# Altium schematic symbol library Schlib1.SchLib: 19 symbols
Pins are listed as number, name and electrical type; pins without a type are passive.

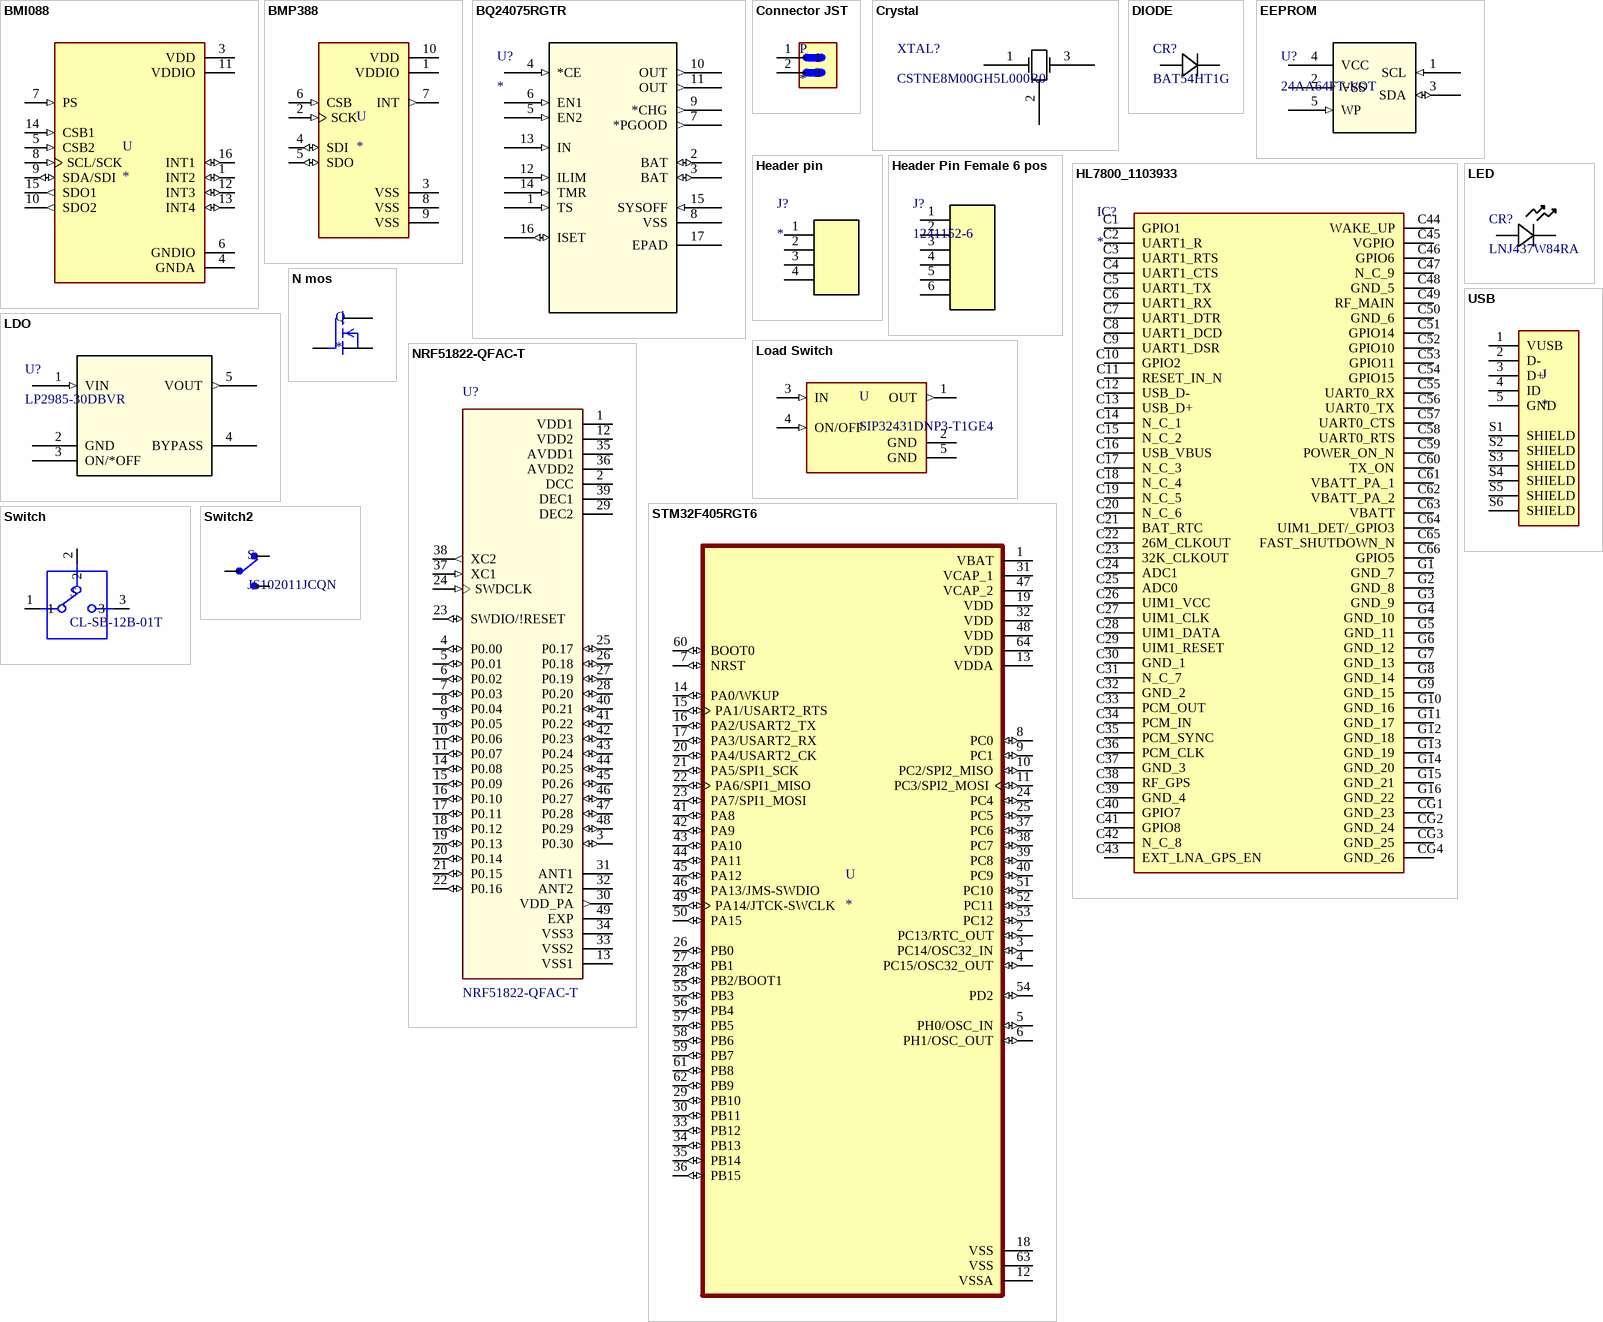
[diagram p0: symbols BMI088 to USB]

## BMI088
designator U
Accelerometer, Gyroscope, 6 Axis Sensor IÂ²C, SPI Output; MP: BMI088; MF: Bosch Sensortec; Availability: Unavailable; Price: None; Value: *; SnapEDA_Link: https://www.snapeda.com/parts/BMI088/Bosch%20Sensortec/view-part/2774026/?ref=snap; Package: VFLGA-16 Bosch Sensortec
footprint PQFN50P450X300X100-16N
footprint PQFN50P450X300X100-16N
pins: 1 INT2 (io), 3 VDD (power), 4 GNDA (power), 5 CSB2 (in), 6 GNDIO (power), 7 PS (in), 8 SCL/SCK (in), 9 SDA/SDI (io), 10 SDO2 (out), 11 VDDIO (power), 12 INT3 (io), 13 INT4 (io), 14 CSB1 (in), 15 SDO1 (out), 16 INT1 (io)

## BMP388
designator U
Pressure Sensor 4.35PSI ~ 18.13PSI _30kPa ~ 125kPa_ Absolute 10-WFLGA; MP: BMP388; MF: Bosch Sensortec; Value: *; SnapEDA_Link: https://www.snapeda.com/parts/BMP388/Bosch%20Sensortec/view-part/2747857/?ref=snap; Package: WFLGA-10 Bosch Tools; Digi-Key_Part_Number: 828-1079-1-ND; Digi-Key_Purchase_URL: https://www.digikey.com/product-detail/en/bosch-sensortec/BMP388/828-1079-1-ND/8322640?utm_source=snapeda&utm_medium=aggregator&utm_campaign=symbol
footprint PQFN50P200X200X80-10N
footprint PQFN50P200X200X80-10N
pins: 1 VDDIO (power), 2 SCK (in), 3 VSS (power), 4 SDI (io), 5 SDO (io), 6 CSB (in), 7 INT (out), 8 VSS (power), 9 VSS (power), 10 VDD (power)

## BQ24075RGTR
designator U?
USB-Friendly Li-Ion Battery Charger and Power-Path Management IC, Vout 5.5V; Manufacturer: Texas Instruments; GENERIC_PART_NUMBER: BQ24075; INDUSTRY_STD_PKG_TYPE: QFN; FAMILY_NAME: BATTERY CHARGE MANAGEMENT; PIN_COUNT: 16; PACKAGE_DESIGNATOR: RGT; Datasheet_URL: http://www.ti.com/lit/gpn/BQ24075; Copyright: Copyright (C) 2018 Accelerated Designs. All rights reserved; RefDes: RefDes; Type: DEV
footprint RGT16_1P7X1P7
pins: 1 TS (in), 2 BAT (io), 3 BAT (io), 4 *CE (in), 5 EN2 (in), 6 EN1 (in), 7 *PGOOD (out), 8 VSS (power), 9 *CHG (out), 10 OUT (out), 11 OUT (out), 12 ILIM (in), 13 IN (in), 14 TMR (in), 15 SYSOFF (in), 16 ISET (io), 17 EPAD (power)

## Connector JST
designator P
Connector Header Surface Mount 2 position 0.079 _2.00mm_ / B2B-PH-SM4-TB; MF: JST Sales; Value: *; MP: B2B-PH-SM4-TB; SnapEDA_Link: https://www.snapeda.com/parts/B2B-PH-SM4-TB/JST%20Sales%20America%20Inc./view-part/473682/?ref=snap; Availability: Unavailable; Package: None; Price: None
footprint JST_B2B-PH-SM4-TB
pins: 1, 2

## Crystal
designator XTAL?, comment CSTNE8M00GH5L000R0
Crystal; Vendor: Murata; Built_By: EMA_Cory; SourceLibrary: Murata_2020-02-28; Datasheet: https://www.murata.com/en/products/productdata/8801161805854/SPEC-CSTNE8M00GH5L000R0.pdf; Manufacturer_Part_Number: CSTNE8M00GH5L000R0; Copyright: Copyright (C) 2018 Accelerated Designs. All rights reserved; RefDes: RefDes; Type: DEV
footprint CSTNE8M00GH5L000
pins: 1 INPUT, 2 GND, 3 OUTPUT

## DIODE
designator CR?, comment BAT54HT1G
Diode schotikky; Vendor: ON Semiconductor; Built_By: EMA_Cory; SourceLibrary: ON_Semiconductor_2020-05-06; Type: DEV; Datasheet: https://media.digikey.com/pdf/Data%20Sheets/Fairchild%20PDFs/BAT54HT1G_Rev_1.2.pdf; Manufacturer_Part_Number: BAT54HT1G; Copyright: Copyright (C) 2018 Accelerated Designs. All rights reserved; RefDes: RefDes
footprint CR_SOD-323_2L_ON
pins: 1, 2

## EEPROM
designator U?, comment 24AA64FT-I/OT
EEPROM / 24AA64FT-I/OT; Vendor: Microchip; Built_By: EMA_Jessica; SourceLibrary: Microchip_2019-08-23_20; Manufacturer_Part_Number: 24AA64FT-I/OT; Copyright: Copyright (C) 2018 Accelerated Designs. All rights reserved; RefDes: RefDes; Type: DEV
footprint SOT-23-5_MC_MCH
pins: 1 SCL (in), 2 VSS (power), 3 SDA (io), 4 VCC (power), 5 WP (in)

## Header pin
designator J?
Header pin 4pos 5-146132-3 male pin header 4pos
footprint 5-146132-3 (Header pin 4pos)
pins: 1, 2, 3, 4

## Header Pin Female 6 pos
designator J?, comment 1241152-6
con 6pos 2.54mm TE connectivity; Built_By: EMA_UL_Team; SourceLibrary: Tyco_2012-1-03; Vendor: TE Connectivity; Manufacturer_Part_Number: 1241152-6; Copyright: Copyright (C) 2016 Accelerated Designs. All rights reserved; RefDes: RefDes; Type: DEV
footprint CONN_1241152-6_T
pins: 1, 2, 3, 4, 5, 6

## HL7800_1103933
designator IC?
Modem; Manufacturer_Name: SIERRA WIRELESS; Manufacturer_Part_Number: HL7800_1103933; Datasheet Link: https://media.digikey.com/pdf/Data%20Sheets/Sierra%20Wireless%20PDFs/AirPrime_HL7800_Web.pdf; Height: 2mm; Arrow Part Number: HL7800_1103933
footprint HL7800_1103933
pins: C1 GPIO1, C2 UART1_R, C3 UART1_RTS, C4 UART1_CTS, C5 UART1_TX, C6 UART1_RX, C7 UART1_DTR, C8 UART1_DCD, C9 UART1_DSR, C10 GPIO2, C11 RESET_IN_N, C12 USB_D-, C13 USB_D+, C14 N_C_1, C15 N_C_2, C16 USB_VBUS, C17 N_C_3, C18 N_C_4, C19 N_C_5, C20 N_C_6, C21 BAT_RTC, C22 26M_CLKOUT, C23 32K_CLKOUT, C24 ADC1, C25 ADC0, C26 UIM1_VCC, C27 UIM1_CLK, C28 UIM1_DATA, C29 UIM1_RESET, C30 GND_1, C31 N_C_7, C32 GND_2, C33 PCM_OUT, C34 PCM_IN, C35 PCM_SYNC, C36 PCM_CLK, C37 GND_3, C38 RF_GPS, C39 GND_4, C40 GPIO7, C41 GPIO8, C42 N_C_8, C43 EXT_LNA_GPS_EN, C44 WAKE_UP, C45 VGPIO, C46 GPIO6, C47 N_C_9, C48 GND_5, C49 RF_MAIN, C50 GND_6, C51 GPIO14, C52 GPIO10, C53 GPIO11, C54 GPIO15, C55 UART0_RX, C56 UART0_TX, C57 UART0_CTS, C58 UART0_RTS, C59 POWER_ON_N, C60 TX_ON, C61 VBATT_PA_1, C62 VBATT_PA_2, C63 VBATT, C64 UIM1_DET/_GPIO3, C65 FAST_SHUTDOWN_N, C66 GPIO5, CG1 GND_23, CG2 GND_24, CG3 GND_25, CG4 GND_26, G1 GND_7, G2 GND_8, G3 GND_9, G4 GND_10, G5 GND_11, G6 GND_12, G7 GND_13, G8 GND_14, G9 GND_15, G10 GND_16, G11 GND_17, G12 GND_18, G13 GND_19, G14 GND_20, G15 GND_21, G16 GND_22

## LDO
designator U?, comment LP2985-30DBVR
LDO; Manufacturer: Texas Instruments; SourceLibrary: TI_2014-06-19; Built_By: EMA_UL_Team; Manufacturer_Part_Number: LP2985-30DBVR; Vendor: Texas Instruments; Copyright: Copyright (C) 2018 Accelerated Designs. All rights reserved; RefDes: RefDes; Type: DEV
footprint DBV5_TEX
pins: 1 VIN (in), 2 GND (power), 3 ON/*OFF, 4 BYPASS, 5 VOUT (out)

## LED
designator CR?, comment LNJ437W84RA
Led; Vendor: Panasonic; Built_By: EMA_UL_Team; SourceLibrary: Panasonic_2012-04-02a; Type: DEV; Manufacturer_Part_Number: LNJ437W84RA; Copyright: Copyright (C) 2018 Accelerated Designs. All rights reserved; RefDes: RefDes
footprint LED_LNJ_PAN
pins: 1, 2

## Load Switch
designator U, comment SIP32431DNP3-T1GE4
Power Switch/Driver 1:1 P-Channel 1.4A 4-TDFN (1.2x1.6); MF: Vishay Siliconix; MP: SIP32431DNP3-T1GE4; Value: *; Package: UFDFN-4 Vishay Siliconix; Price: None; SnapEDA_Link: https://www.snapeda.com/parts/SIP32431DNP3-T1GE4/Vishay%20Siliconix/view-part/549445/?ref=snap; Availability: Unavailable
footprint SON50P120X160X60-5N
footprint SON50P120X160X60-5N
footprint Model Name (Footprint not found)
pins: 1 OUT (out), 2 GND (power), 3 IN (in), 4 ON/OFF (in), 5 GND (power)

## N mos
designator Q
N-Channel 60V 200mA _Tc_ 350mW _Tc_ Surface Mount SOT-23-3 2N7002; MF: STMicroelectronics; Price: None; Package: SOT-23-3 Vishay; Value: *; MP: 2N7002; Availability: Unavailable; SnapEDA_Link: https://www.snapeda.com/parts/2N7002/STMicroelectronics/view-part/2885412/?ref=snap
footprint SOT23
pins: 1 G, 2 S, 3 D

## NRF51822-QFAC-T
designator U?
WIFI; SnapEDA_Link: https://www.snapeda.com/parts/NRF51822-QFAC-T/Nordic%20Semiconductor%20ASA/view-part/50058/?ref=snap; Value: *
footprint *QFN40P600X600X90-49N
pins: 1 VDD1 (power), 2 DCC (power), 3 P0.30 (io), 4 P0.00 (io), 5 P0.01 (io), 6 P0.02 (io), 7 P0.03 (io), 8 P0.04 (io), 9 P0.05 (io), 10 P0.06 (io), 11 P0.07 (io), 12 VDD2 (power), 13 VSS1 (power), 14 P0.08 (io), 15 P0.09 (io), 16 P0.10 (io), 17 P0.11 (io), 18 P0.12 (io), 19 P0.13 (io), 20 P0.14 (io), 21 P0.15 (io), 22 P0.16 (io), 23 SWDIO/!RESET (io), 24 SWDCLK (in), 25 P0.17 (io), 26 P0.18 (io), 27 P0.19 (io), 28 P0.20 (io), 29 DEC2 (power), 30 VDD_PA (out), 31 ANT1, 32 ANT2, 33 VSS2 (power), 34 VSS3 (power), 35 AVDD1 (power), 36 AVDD2 (power), 37 XC1 (in), 38 XC2 (out), 39 DEC1 (power), 40 P0.21 (io), 41 P0.22 (io), 42 P0.23 (io), 43 P0.24 (io), 44 P0.25 (io), 45 P0.26 (io), 46 P0.27 (io), 47 P0.28 (io), 48 P0.29 (io), 49 EXP (power)

## STM32F405RGT6
designator U
ARMÂ® CortexÂ®-M4 STM32F4 Microcontroller IC 32-Bit 168MHz 1MB _1M x 8_ FLASH 64-LQFP _10x10_; MF: STMicroelectronics; MP: STM32F405RGT6; Package: LQFP-64 STMicroelectronics; Digi-Key_Purchase_URL: https://www.digikey.com/product-detail/en/stmicroelectronics/STM32F405RGT6/497-11767-ND/2754208?utm_source=snapeda&utm_medium=aggregator&utm_campaign=symbol; Value: *; SnapEDA_Link: https://www.snapeda.com/parts/STM32F405RGT6/STMicroelectronics/view-part/105502/?ref=snap; Digi-Key_Part_Number: 497-11767-ND
footprint QFP50P1200X1200X160-64N
footprint QFP50P1200X1200X160-64N
pins: 1 VBAT (power), 2 PC13/RTC_OUT (io), 3 PC14/OSC32_IN (io), 4 PC15/OSC32_OUT (io), 5 PH0/OSC_IN (io), 6 PH1/OSC_OUT (io), 7 NRST (io), 8 PC0 (io), 9 PC1 (io), 10 PC2/SPI2_MISO (io), 11 PC3/SPI2_MOSI (io), 12 VSSA (power), 13 VDDA (power), 14 PA0/WKUP (io), 15 PA1/USART2_RTS (io), 16 PA2/USART2_TX (io), 17 PA3/USART2_RX (io), 18 VSS (power), 19 VDD (power), 20 PA4/USART2_CK (io), 21 PA5/SPI1_SCK (io), 22 PA6/SPI1_MISO (io), 23 PA7/SPI1_MOSI (io), 24 PC4 (io), 25 PC5 (io), 26 PB0 (io), 27 PB1 (io), 28 PB2/BOOT1 (io), 29 PB10 (io), 30 PB11 (io), 31 VCAP_1 (power), 32 VDD (power), 33 PB12 (io), 34 PB13 (io), 35 PB14 (io), 36 PB15 (io), 37 PC6 (io), 38 PC7 (io), 39 PC8 (io), 40 PC9 (io), 41 PA8 (io), 42 PA9 (io), 43 PA10 (io), 44 PA11 (io), 45 PA12 (io), 46 PA13/JMS-SWDIO (io), 47 VCAP_2 (power), 48 VDD (power), 49 PA14/JTCK-SWCLK (io), 50 PA15 (io), 51 PC10 (io), 52 PC11 (io), 53 PC12 (io), 54 PD2 (io), 55 PB3 (io), 56 PB4 (io), 57 PB5 (io), 58 PB6 (io), 59 PB7 (io), 60 BOOT0 (io), 61 PB8 (io), 62 PB9 (io), 63 VSS (power), 64 VDD (power)

## Switch
designator S, comment CL-SB-12B-01T
Slide Switch SPDT Surface Mount; MF: Nidec Copal; SnapEDA_Link: https://www.snapeda.com/parts/CL-SB-12B-01T/Nidec%20Copal%20Electronics/view-part/2372351/?ref=snap; Availability: Unavailable; Value: *; Package: None; Price: None; MP: CL-SB-12B-01T
footprint CL-SB-12B
pins: 1 (io), 2 (io), 3 (io)

## Switch2
designator S, comment JS102011JCQN
Slide Switch SPDT Surface Mount; MF: C&K; Package: None; Price: None; Availability: Unavailable; MP: JS102011JCQN; SnapEDA_Link: https://www.snapeda.com/parts/JS102011JCQN/C%26K/view-part/595990/?ref=snap; Value: *
footprint SW_JS102011JCQN
pins: 1, 2, 3

## USB
designator J
USB - micro B USB 2.0 Receptacle Connector 5 Position Surface Mount, Right Angle; Through Hole; MP: 10118193-0001LF; MF: Amphenol ICC; Availability: Unavailable; SnapEDA_Link: https://www.snapeda.com/parts/10118193-0001LF/Amphenol%20FCI/view-part/2758989/?ref=snap; Price: None; Value: *; Package: None
footprint FCI_10118193-0001LF
pins: 1 VUSB, 2 D-, 3 D+, 4 ID, 5 GND, S1 SHIELD, S2 SHIELD, S3 SHIELD, S4 SHIELD, S5 SHIELD, S6 SHIELD